# Altium footprint library PCB - POWER INDUCTORS - EATON DR125.PCBLIB: 1 footprints
Each footprint in its own frame and in the unit in brackets; x right, y up, seen from the top. Pads: shape width x height; smd on the part's side, far side on the other; paste and mask are expansions set on the pad; w line width, h text height; cw(c..) or ccw(c..) is an arc to the next point about the centre after c.
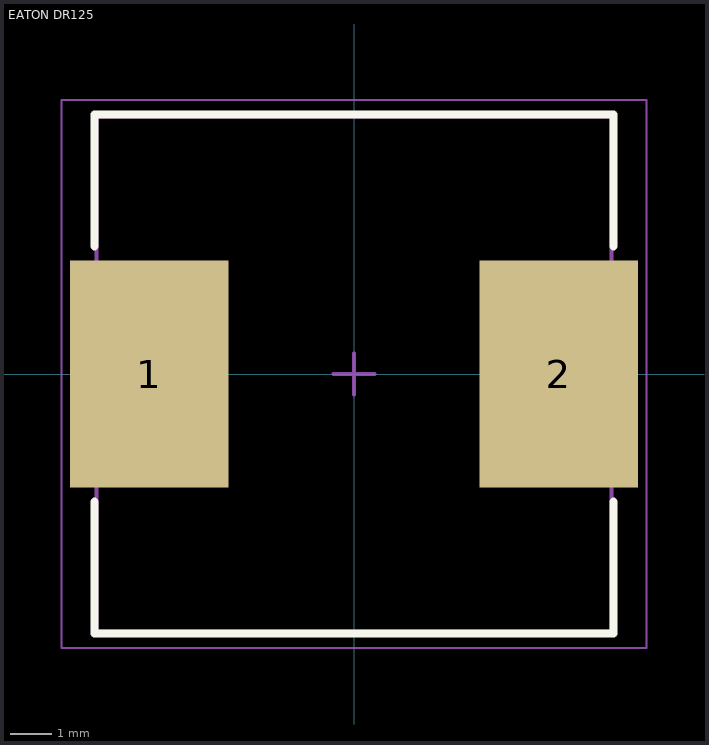
[diagram p0: the footprint, top view; thin cyan lines are the x and y axes]

## EATON DR125 [mm] "Precision Wire Wound Inductor, 2-Leads, Body 12.50x12.50mm"
height 6
pads (2):
  rect 3.85x5.5 smd: 1(-4.975,0) 2(4.975,0)
Top Overlay:
  lines w0.2: -6.3,-3.1 -6.3,-6.3 6.3,-6.3 6.3,-3.1 ; -6.3,3.1 -6.3,6.3 6.3,6.3 6.3,3.1
Mechanical 13:
  lines w0.1: -6.25,-6.25 -6.25,6.25 6.25,6.25 6.25,-6.25 -6.25,-6.25
Mechanical 15:
  lines w0.05: -7.1,-6.65 -7.1,6.65 7.1,6.65 7.1,-6.65 -7.1,-6.65
  lines w0.1: -0.5,0 0.5,0 ; 0,-0.5 0,0.5
3D body "EATON DR125.step": height 6, standoff 0, extent -6.26,-6.25 6.26,6.25